# EAGLE library part 691322310011 (library Wuerth_Elektronik_eiCan_Terminal_Blocks_v2.0)
WR-TBL Serie 322 - 3.81mm Vertical PCB Header , 11 Pins
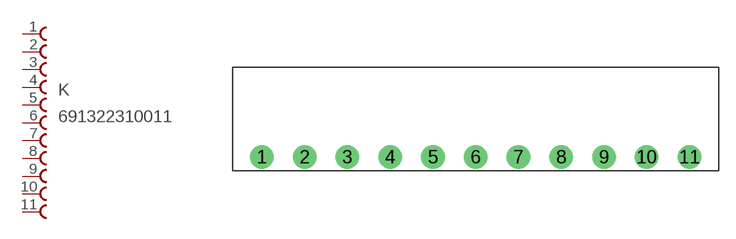
[diagram p43: symbol with the pads of 691322310011; footprint 691322310011]

Designator prefix K

## 691322310011  [691322310011]
1  1  pas
2  2  pas
3  3  pas
4  4  pas
5  5  pas
6  6  pas
7  7  pas
8  8  pas
9  9  pas
10  10  pas
11  11  pas

## Footprint 691322310011 (pad centres in mm)
WR-TBL Serie 322 - 3.81mm Vertical PCB Header , 11 Pins
drill 1.4 round: 1 -22.86,0; 2 -19.05,0; 3 -15.24,0; 4 -11.43,0; 5 -7.62,0; 6 -3.81,0; 7 0,0; 8 3.81,0; 9 7.62,0; 10 11.43,0; 11 15.24,0